# Altium schematic symbol library ERJ-3GEYJ471V.SchLib: 1 symbol
Pins are listed as number, name and electrical type; pins without a type are passive.

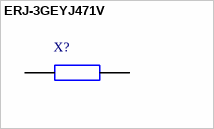
[diagram p0: symbol ERJ-3GEYJ471V]

## ERJ-3GEYJ471V
designator X?
Manufacturer_Name: Panasonic; Geometry.Height: 0.55mm; Manufacturer_Part_Number: ERJ-3GEYJ471V; Mouser Part Number: 667-ERJ-3GEYJ471V; Mouser Price/Stock: https://www.mouser.co.uk/ProductDetail/Panasonic/ERJ-3GEYJ471V?qs=4WZYzuGhm5rQomjycBISvQ%3D%3D; Arrow Part Number: ERJ-3GEYJ471V; Arrow Price/Stock: https://www.arrow.com/en/products/erj-3geyj471v/panasonic; Mouser Testing Part Number: *; Mouser Testing Price/Stock: *; Description: *; Datasheet Link: https://datasheet.datasheetarchive.com/originals/distributors/DKDS40/DSANUWW0010846.pdf
footprint ERJ3EKF1000V
pins: 1, 2